# Altium footprint library CONN2x8_050_LOCK.PcbLib: 1 footprints
Each footprint in its own frame and in the unit in brackets; x right, y up, seen from the top. Pads: shape width x height; smd on the part's side, far side on the other; paste and mask are expansions set on the pad; w line width, h text height; cw(c..) or ccw(c..) is an arc to the next point about the centre after c.
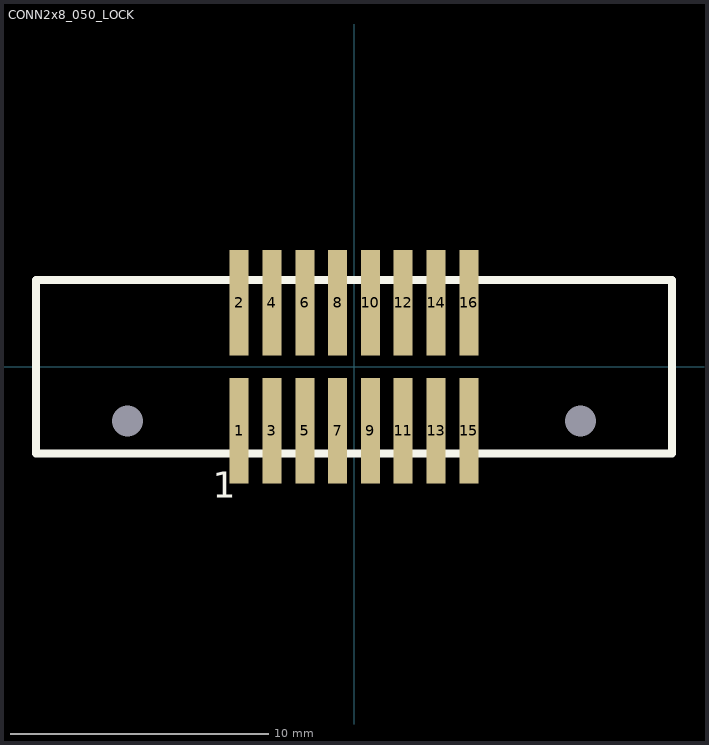
[diagram p0: the footprint, top view; thin cyan lines are the x and y axes]

## CONN2x8_050_LOCK [mil]
height 325
pads (18):
  round 1 hole 47: 0(-345,-82.5) 0(345,-82.5)
  rect 29x161 smd: 1(-175,-97.5) 2(-175,97.5) 3(-125,-97.5) 4(-125,97.5) 5(-75,-97.5) 6(-75,97.5) 7(-25,-97.5) 8(-25,97.5) 9(25,-97.5) 10(25,97.5) 11(75,-97.5) 12(75,97.5) 13(125,-97.5) 14(125,97.5) 15(175,-97.5) 16(175,97.5)
Top Overlay:
  lines w12: -485,-132 -485,132 485,132 485,-132 -485,-132
  text "1" at -215,-200 h40
3D body: height 451.89, standoff -53.4, extent -485,-148 485,148